# EAGLE library part MOLEX_MINIFIT-22 (library molex_mini-fit)
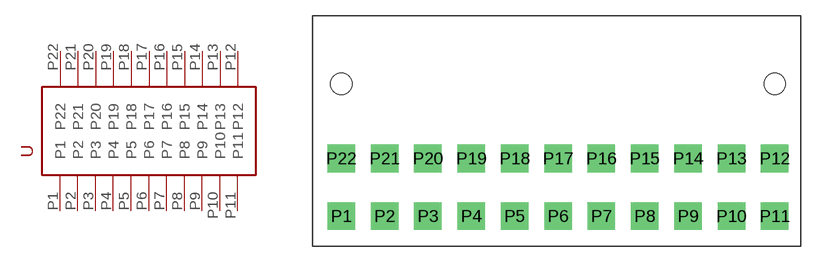
[diagram p5: symbol with the pads of MOLEX_MINIFIT-22; footprint MOLEX_MINIFIT-22]

Designator prefix -

## MOLEX_MINIFIT-22  [MOLEX_MINIFIT-22]
P1  P1
P2  P2
P3  P3
P4  P4
P5  P5
P6  P6
P7  P7
P8  P8
P9  P9
P10  P10
P11  P11
P12  P12
P13  P13
P14  P14
P15  P15
P16  P16
P17  P17
P18  P18
P19  P19
P20  P20
P21  P21
P22  P22

## Footprint MOLEX_MINIFIT-22 (pad centres in mm)
drill 1.778 pad 2.54 square: P1 -20.955,-2.794; P2 -16.764,-2.794; P3 -12.573,-2.794; P4 -8.382,-2.794; P5 -4.191,-2.794; P6 0,-2.794; P7 4.191,-2.794; P8 8.382,-2.794; P9 12.573,-2.794; P10 16.764,-2.794; P11 20.955,-2.794; P12 20.955,2.794; P13 16.764,2.794; P14 12.573,2.794; P15 8.382,2.794; P16 4.191,2.794; P17 0,2.794; P18 -4.191,2.794; P19 -8.382,2.794; P20 -12.573,2.794; P21 -16.764,2.794; P22 -20.955,2.794
hole 2.057 at -20.955,10.033
hole 2.057 at 20.955,10.033